# EAGLE library part RGBLEDSMD (library Richard_Components2)
For 5050 RGB LEDs, the order of the LEDs may vary from one manufacturer to another!
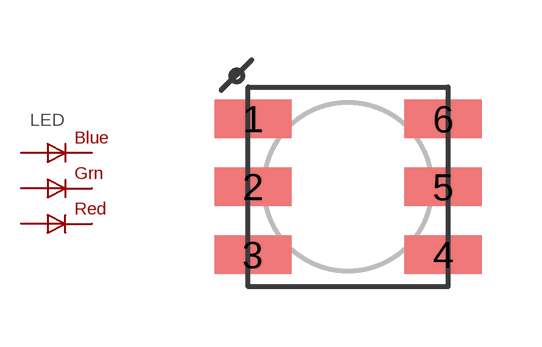
[diagram p0: symbol with the pads of RGBLED5050; footprint RGBLED5050]

Designator prefix LED

## RGBLEDSMD5050  [RGBLED5050]
1  BLU_A
2  RED_A
3  GRN_A
4  GRN_C
5  RED_C
6  BLU_C

## Footprint RGBLED5050 (pad centres in mm)
smd 1.93 x 0.965: 1 -2.381,1.7; 2 -2.381,0; 3 -2.381,-1.7; 4 2.381,-1.7; 5 2.381,0; 6 2.381,1.7